# Altium schematic symbol library RLC.SchLib: 155 symbols (part 2 of 2)
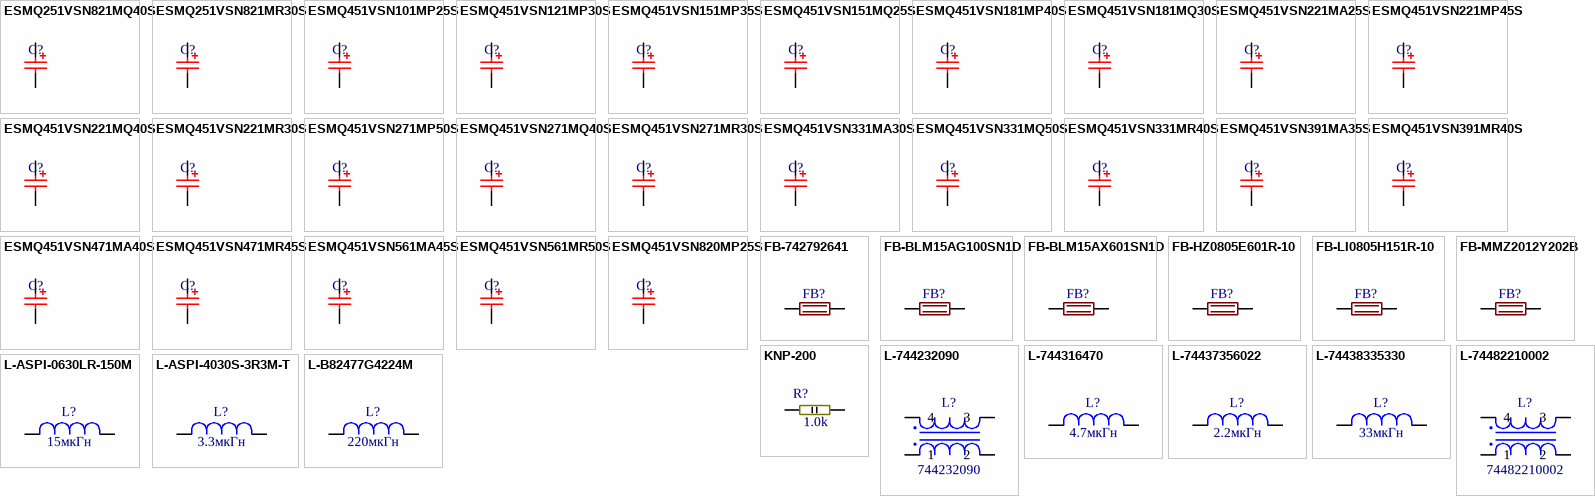
[diagram p4: symbols ESMQ251VSN821MQ40S to L-B82477G4224M]

## ESMQ451VSN391MR40S
designator C?, comment 390мк  (value not drawn)
Aluminium Electrolytic Capacitors - Radial Leaded ALUMINUM ELECTROLYTIC RADIAL 390UF 450 V; Part Number: ESMQ161VSN821MP35S; Voltage: 450V; Tolerance: +-20%; TypeComp: Capasitor; Value: 390мк; Quantity: 1; Package: 30mm x 40mm; Price: *; Manufacturer: *; ShoppingPlace: *; Documentation: https://ru.mouser.com/datasheet/2/420/United-Chemi-Con-552877.pdf
pins: 1, 2

## ESMQ451VSN471MA40S
designator C?, comment 470мк  (value not drawn)
Aluminium Electrolytic Capacitors - Radial Leaded ALUMINUM ELECTROLYTIC RADIAL 470UF 450 V; Part Number: ESMQ161VSN821MP35S; Voltage: 450V; Tolerance: +-20%; TypeComp: Capasitor; Value: 470мк; Quantity: 1; Package: 30mm x 40mm; Price: *; Manufacturer: *; ShoppingPlace: *; Documentation: https://ru.mouser.com/datasheet/2/420/United-Chemi-Con-552877.pdf
pins: 1, 2

## ESMQ451VSN471MR45S
designator C?, comment 470мк  (value not drawn)
Aluminium Electrolytic Capacitors - Radial Leaded ALUMINUM ELECTROLYTIC RADIAL 470UF 450 V; Part Number: ESMQ161VSN821MP35S; Voltage: 450V; Tolerance: +-20%; TypeComp: Capasitor; Value: 470мк; Quantity: 1; Package: 30mm x 45mm; Price: *; Manufacturer: *; ShoppingPlace: *; Documentation: https://ru.mouser.com/datasheet/2/420/United-Chemi-Con-552877.pdf
pins: 1, 2

## ESMQ451VSN561MA45S
designator C?, comment 560мк  (value not drawn)
Aluminium Electrolytic Capacitors - Radial Leaded ALUMINUM ELECTROLYTIC RADIAL 560UF 450 V; Part Number: ESMQ161VSN821MP35S; Voltage: 450V; Tolerance: +-20%; TypeComp: Capasitor; Value: 560мк; Quantity: 1; Package: 35mm x 45mm; Price: *; Manufacturer: *; ShoppingPlace: *; Documentation: https://ru.mouser.com/datasheet/2/420/United-Chemi-Con-552877.pdf
pins: 1, 2

## ESMQ451VSN561MR50S
designator C?, comment 560мк  (value not drawn)
Aluminium Electrolytic Capacitors - Radial Leaded ALUMINUM ELECTROLYTIC RADIAL 560UF 450 V; Part Number: ESMQ161VSN821MP35S; Voltage: 450V; Tolerance: +-20%; TypeComp: Capasitor; Value: 560мк; Quantity: 1; Package: 30mm x 50mm; Price: *; Manufacturer: *; ShoppingPlace: *; Documentation: https://ru.mouser.com/datasheet/2/420/United-Chemi-Con-552877.pdf
pins: 1, 2

## ESMQ451VSN820MP25S
designator C?, comment 82мк  (value not drawn)
Aluminium Electrolytic Capacitors - Radial Leaded ALUMINUM ELECTROLYTIC RADIAL 82UF 450 V; Part Number: ESMQ161VSN821MP35S; Voltage: 450V; Tolerance: +-20%; TypeComp: Capasitor; Value: 82мк; Quantity: 1; Package: 22mm×25mm; Price: *; Manufacturer: *; ShoppingPlace: *; Documentation: https://ru.mouser.com/datasheet/2/420/United-Chemi-Con-552877.pdf
pins: 1, 2

## FB-742792641
designator FB?
FERRITE BEAD 300 OHM 2А 0603 1LN; Manufacturer: Wurth Elc.; Value: 742792641; Tolerance: +-5%; Quabtity: 1; PVoltage: 2A,300Ohm@100MHz; ValueDesc: 742792641  0603 (1608)  2A,300Ohm@100MHz  742792641Гн Wurth Elc.; Package: 0603 (1608); Type: Ferrite Bead; Documentation: http://katalog.we-online.de/pbs/datasheet/742792641.pdf; Price: 1; ShoppingPlace: *; Part Number: 742792641; ValuePart: 742792641
footprint FB0603 (Body 1,6x0,8x0,8)
pins: 1, 2
1 alternate drawing of the same symbol

## FB-BLM15AG100SN1D
designator FB?
FERRITE BEAD 10 OHM 0402 1LN; Part Number: BLM15AG100SN1D; Manufacturer: Murata; PVoltage: 1A,10Ohm @ 100MHz; Value: 1u; Tolerance: +-5%; ValueDesc: BLM15AG100SN1D  0402 (1005)  1A,10Ohm @ 100MHz  1uГн Murata; Documentation: https://www.murata.com/en-us/products/productdata/8796740059166/ENFA0018.pdf; Price: 1; Quantity: 1; Package: 0402 (1005); ShoppingPlace: *; ValuePart: BLM15AG100SN1D
footprint FB0402
pins: 1, 2
1 alternate drawing of the same symbol

## FB-BLM15AX601SN1D
designator FB?, comment BLM15AX601SN1D  (value not drawn)
FERRITE BEAD 600 OHM 0402 1LN; Manufacturer: Murata; PVoltage: 500mA; Value: 600Ohm@100MHz; ValueDesc: BLM15AX601SN1D  0402 (1005)  500mA  600Ohm@100MHz  Murata; Part Number: BLM15AX601SN1D; Documentation: https://www.murata.com/en-us/products/productdata/8796740059166/ENFA0018.pdf; Price: 0,11; Quantity: 1; Package: 0402 (1005); ShoppingPlace: *; ValuePart: BLM15AX601SN1D
footprint FB0402
pins: 1, 2
1 alternate drawing of the same symbol

## FB-HZ0805E601R-10
designator FB?, comment HZ0805E601R-10  (value not drawn)
FERRITE BEAD 600 OHM 0402 1LN; Manufacturer: Laird; PVoltage: 500mA; Value: 600Ohm@100MHz; Tolerance: +-5%; ValueDesc: HZ0805E601R-10  0402 (1005)  500mA  600Ohm@100MHz  Laird; Part Number: HZ0805E601R-10; Documentation: http://cdn.lairdtech.com/home/brandworld/files/Catalog_EMI%20Filtering%20&%20RF%20Inductors.pdf; Price: 0,11; Quantity: 1; Package: 0402 (1005); ShoppingPlace: *; ValuePart: HZ0805E601R-10
footprint FB0402
pins: 1, 2
1 alternate drawing of the same symbol

## FB-LI0805H151R-10
designator FB?, comment LI0805H151R-10  (value not drawn)
FERRITE BEAD 150 OHM 0805 1LN; Manufacturer: Laird; PVoltage: 800mA; Value: 150 Ohms @ 100MHz; Tolerance: +-5%; ValueDesc: LI0805H151R-10  0805 (2012)  800mA  150 Ohms @ 100MHz  Laird; Part Number: LI0805H151R-10; Documentation: https://media.digikey.com/pdf/Data%20Sheets/Steward%20PDFs/Part%20Number%20Guide.pdf; Price: 0,11; Quantity: 1; Package: 0805 (2012); ShoppingPlace: *; ValuePart: LI0805H151R-10
footprint FB0805
pins: 1, 2
1 alternate drawing of the same symbol

## FB-MMZ2012Y202B
designator FB?
FERRITE BEAD 2kOHM 0805 1LN; Manufacturer: TDK; ValuePart: MMZ2012Y202B; PVoltage: 400mA; Value: 2kOhm@100MHz; Tolerance: +-5%; ValueDesc: MMZ2012Y202B  0805 (2012)  400mA  2kOhm@100MHz  TDK; Documentation: https://product.tdk.com/info/en/catalog/datasheets/beads_commercial_signal_mmz2012_en.pdf; Price: 0,11; Quantity: 1; Package: 0805 (2012); ShoppingPlace: *
footprint FB0805
pins: 1, 2
1 alternate drawing of the same symbol

## KNP-200
designator R?, comment 1.0k
KNP-200 2 Вт, 1 кОм, 5%; Part Number: KNP-2W-1KJ; Manufacturer: Тайвань; Voltage: 200В; Tolerance: +-5%; TypeComp: Resistor; Power: 1W; Quantity: *; Package: 2512; Price: 0,4; ShoppingPlace: https://www.chipdip.by/product0/267342143; Documentation: https://static.chipdip.ru/lib/244/DOC000244326.pdf; Value: 1.0k
footprint KNP-200-H (15mmx5mmx5mm hole 1mm)
footprint KNP-200-V (5mmx5mmx21mm hole 1mm)
pins: 1, 2

## L-744232090
designator L?  value 744232090
CMC 370MA 2LN 90 OHM SMD; Manufacturer: Wurth Electronics Inc.; Power: 50B; Tolerance: 90 Ohms @ 100MHz; Price: 1.23; Documentation: http://katalog.we-online.de/pbs/datasheet/744232090.pdf; Package: 4 PC Pad; Part Number: 744232090; Operating Temperature: -40°C~125°C; Quantity: *
footprint 4 PC Pad_WE-CNSW (Body 3.20mm x 1.60mm)
pins: 1, 2, 3, 4

## L-744316470
designator L?  value 4.7мкГн
FIXED IND 4.7UH 4.6A 24.5 MOHM; Manufacturer: Wurth Electronics Inc.; Part Number: 744316470; Tolerance: ±20%; Type: Inductor; Price: 2.55; Documentation: http://katalog.we-online.de/pbs/datasheet/744316470.pdf; Package: 5.5x5.3mm; Power: 4.6A
footprint l-744316470
pins: 1, 2
1 alternate drawing of the same symbol

## L-74437356022
designator L?  value 2.2мкГн
FIXED IND 2.2UH 8.5A 20.3 MOHM; Manufacturer: Wurth Electronics Inc.; Part Number: 74437356022; Tolerance: ±20%; ValueType: Inductor; Price: 2.08; Documentation: http://katalog.we-online.de/pbs/datasheet/74437356022.pdf; Package: 9.20x8.50mm; Power: 8.5A; Operating Temperature: -40°C~125°C
footprint l-74437356022
pins: 1, 2
1 alternate drawing of the same symbol

## L-74438335330
designator L?  value 33мкГн
FIXED IND 33UH 500MA 1.33 OHM; Manufacturer: Wurth Electronics; Part Number: 74438335330; Power: 0.5A; Tolerance: ±20%; ValueType: Inductor; Price: 1.57; Package: 1212 (3030); Operating Temperature: -40°C~125°C; Documantation: *
footprint L-1210 (3225 Metric) (0.126" L x 0.098" W (3.20mm x 2.50mm)_M)
pins: 1, 2
1 alternate drawing of the same symbol

## L-74482210002
designator L?  value 74482210002
CMC 175UH 10A 2LN TH; Manufacturer: Wurth Electronics Inc.; Power: 50B; Tolerance: 4mOhms @ 100kHz; Price: 5.94; Documentation: https://katalog.we-online.de/pbs/datasheet/74482210002.pdf; Package: 4 PC Pad-HOLE; Part Number: 74482210002; Operating Temperature: -40°C~125°C; Quantity: *
footprint 4 PC Pad-HOLE
pins: 1, 2, 3, 4

## L-ASPI-0630LR-150M
designator L?  value 15мкГн
FIXED IND 15UH 3A 120 MOHM; Manufacturer: Abracon LLC; Part Number: ASPI-0630LR-150M; Tolerance: ±20%; ValueType: Inductor; Price: 0.81; Documentation: http://www.abracon.com/Magnetics/power/ASPI-0630LR.pdf; Package: 7.20x6.65mm; PowerVoltage: 3A; Operating Temperature: -55°C~125°C
footprint L-ASPI-0630LR
pins: 1, 2
1 alternate drawing of the same symbol

## L-ASPI-4030S-3R3M-T
designator L?  value 3.3мкГн
FIXED IND 3.3UH 2.4A 40 MOHM SMD; ValueManufacturer: Abracon LLC; Part Number: ASPI-4030S-3R3M-T; Tolerance: ±20%; ValueType: Inductor; Price: 0.79000; Documentation: https://abracon.com/Magnetics/power/ASPI-4030S.pdf; Package: 3.0x4.0х4.0mm; Operating Temperature: -40°C ~ 125°C
footprint L-ASPI-4030S-3R3M-T
pins: 1, 2
1 alternate drawing of the same symbol

## L-B82477G4224M
designator L?  value 220мкГн
B82477G4224M, 220 мкГн, 1.16 А, 12.8х12.8, Катушка индуктивности SMD; Manufacturer: Epcos; Power: 1.16 А; Tolerance: ±20%; Type: Inductor; Price: 0,9; Documentation: https://static.chipdip.ru/lib/009/DOC001009882.pdf; Package: 10.4 мм x 10.4 мм; Part Number: B82477G4224M
footprint L-B82477G4 (12.8 mmx 12.8 mmx 8.0mm)
pins: 1, 2
1 alternate drawing of the same symbol

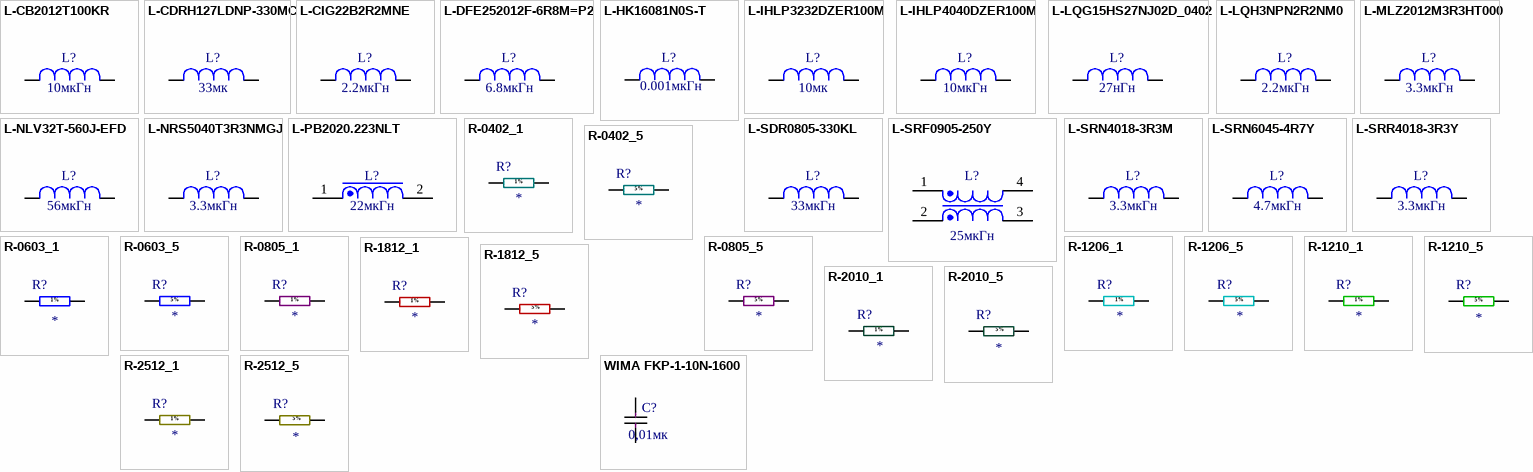
[diagram p3: symbols L-CB2012T100KR to WIMA FKP-1-10N-1600]

## L-CB2012T100KR
designator L?  value 10мкГн
FIXED IND 10µH 520mA 650mOhm 0805; Manufacturer: Taiyo Yuden; Part Number: CB2012T100KR; PVoltage: 0.52A; Tolerance: ±10%; ValueType: Inductor; Price: 0.23; Documentation: http://www.yuden.co.jp/productdata/catalog/en/wound02_e.pdf; Package: 0805 (2012); Operating Temperature: -40°C~105°C; ValueDesc: =ValuePart+'  '+PVoltage+'  '+Value+'мкГн '+Tolerance+'  '
footprint L0805
pins: 1, 2
1 alternate drawing of the same symbol

## L-CDRH127LDNP-330MC
designator L?  value 33мк
33UH 3A CD127 Размер: 12*12*7,5 мм; ValueManufacturer: SUMIDA; Part Number: CDRH127LDNP-330MC; TechSpec: Высота 5mm; Tolerance: ±20%; ValueType: Inductor; ValueDesc: CDRH127LDNP-330MC  3A  33мкмкГн ±20%; Price: 0,269; Documentation: https://products.sumida.com/products/pdf/CDRH127LD.pdf; Package: 8.64x8.18mm; PVoltage: 3A; Operating Temperature: -55°C~125°C; ValuePart: CDRH127LDNP-330MC; ShoppingPlace: https://ru.aliexpress.com/item/32317363511.html?spm=a2g0o.productlist.0.0.521b7d17e7VlJm&algo_pvid=9ba380fb-85ef-416a-8ee8-ca85e20aee77&algo_expid=9ba380fb-85ef-416a-8ee8-ca85e20aee77-0&btsid=f56018b0-e9bd-4c4e-9149-4bf090074090&ws_ab_test=searchweb0_0,searchweb201602_7,searchweb201603_52
footprint CDRH127LDNP-330MC (12mmx12mmx5mm)
pins: 1, 2
1 alternate drawing of the same symbol

## L-CIG22B2R2MNE
designator L?  value 2.2мкГн
FIXED IND 2.2UH 1.1A 183 MOHM; Manufacturer: Samsung Electro-Mechanics; Part Number: CIG22B2R2MNE; Tolerance: ±20%; Type: Inductor; Price: 0.25; Documentation: http://www.samsungsem.com/kr/front/downloadcms.do?path=/kr/support/product-search/inductor/__icsFiles/afieldfile/2014/11/13&fileName=S_CIG22B1R0MAE.pdf; Package: 1008 (2520); Power: 1.1A; Operating Temperature: -40°C~125°C
footprint L1008 (Chip Inductor, 2-Leads, Body 2,50x2,00mm, IPC Medium Density)
pins: 1, 2
1 alternate drawing of the same symbol

## L-DFE252012F-6R8M=P2
designator L?  value 6.8мкГн
FIXED IND 6.8UH 1.2A 330 MOHM; Manufacturer: Murata Electronics North America; Tolerance: ±20%; Par tNumber: DFE252012F-6R8M=P2; ValueType: Inductor; Price: 0.67; Package: 1008 (2520); Power: 1.2A; Operating Temperature: -40°C~125°C; Documentation: https://www.murata.com/~/media/webrenewal/products/inductor/chip/tokoproducts/wirewoundmetalalloychiptype/m_dfe252012f.ashx
footprint L1008 (Chip Inductor, 2-Leads, Body 2,50x2,00mm, IPC Medium Density)
pins: 1, 2
1 alternate drawing of the same symbol

## L-HK16081N0S-T
designator L?  value 0.001мкГн
FIXED INDUCTOR 1NH 300MA 50 MOHM SMD; ValueManufacturer: Taiyo Yuden; Part Number: HK16081N0S-T; Tolerance: ±300пГн; Price: 0.12; Documentation: http://ds.yuden.co.jp/TYCOMPAS/ut/detail.do?productNo=HK16081N0S-T&fileName=HK16081N0S-T_SS&mode=specSheetDownload; Package: 0603 (1608 Metric); Power: 300mA; ValueType: Fixed Inductor; Operating Temperature: -40°C ~ 85°C
footprint L0603_HK16081N0S-T (Body 1,6x0,8x0,8)
pins: 1, 2
1 alternate drawing of the same symbol

## L-IHLP3232DZER100M
designator L?  value 10мк
FIXED IND 10UH 5.2A 59.9 MOHM; ValueManufacturer: Vishay Dale; Part Number: IHLP3232DZER100M; TechSpec: Высота 4mm; Tolerance: ±20%; ValueType: Inductor; ValueDesc: IHLP3232DZER100M  5.2A  10мкмкГн ±20%; Price: 1.61; Documentation: http://www.vishay.com/docs/34192/lp40dz11.pdf; Package: 8.64x8.18mm; PVoltage: 5.2A; Operating Temperature: -55°C~125°C; ValuePart: IHLP3232DZER100M
footprint L-IHLP3232DZER100M
pins: 1, 2
1 alternate drawing of the same symbol

## L-IHLP4040DZER100M
designator L?  value 10мкГн
FIXED IND 10UH 7.5A 30.5 MOHM; Manufacturer: Vishay Dale; Part Number: IHLP4040DZER100M; PVoltage: 7.1A; Tolerance: ±20%; ValueType: Inductor; Price: 2.48; Documentation: http://www.vishay.com/docs/34192/lp40dz11.pdf; Package: 11x10.30mm; Operating Temperature: -55°C~125°C; ValueDesc: =ValuePart+'  '+PVoltage+'  '+Value+'мкГн '+Tolerance+'  '
footprint L-IHLP4040DZER100M11 (Chip Inductor, 2-Leads, Body 10.92mm x 10.30mm,  Vishay Dale)
pins: 1, 2
1 alternate drawing of the same symbol

## L-LQG15HS27NJ02D_0402
designator L?  value 27нГн
FIXED IND 27NH 350MA 460 MOHM; Manufacturer: Murata Electronics; Part Number: LQG15HS27NJ02D; TechSpec: 460 mOhm Max; Tolerance: ±5%; ValueType: Inductor; Price: 0.1; Documentation: http://psearch.en.murata.com/inductor/product/LQG15HS27NJ02_.pdf; Package: 1.0x0.5mm; Power: 350mA; Operating Temperature: -40°C~125°C
footprint L0402
pins: 1, 2
1 alternate drawing of the same symbol

## L-LQH3NPN2R2NM0
designator L?  value 2.2мкГн
FIXED IND 2.2UH 1.6A 73 MOHM; Manufacturer: Murata; PartNumber: LQH3NPN2R2NM0; Power: 1.25A; Tolerance: ±30%; ValueType: Inductor; ValueDesc: 1212 LQH3NPN2R2NM0 2.2мкГн Murata; Price: 0.44; Documentation: http://psearch.en.murata.com/inductor/product/LQH3NPN2R2NM0%23.pdf; Package: 1212; Operating Temperature: -40°C~85°C
footprint 1212_LQH3NPN2R2NM0L
pins: 1, 2
1 alternate drawing of the same symbol

## L-MLZ2012M3R3HT000
designator L?  value 3.3мкГн
FIXED IND 3.3UH 500MA 200 MOHM; ValueManufacturer: Taiyo Yuden; ValueManufacturerPartNumber: MLZ2012M3R3HT000; Power: 0.5A; Tolerance: ±20%; ValueType: Inductor; Price: 0.15; Documentation: https://product.tdk.com/info/en/catalog/datasheets/inductor_commercial_decoupling_mlz2012_en.pdf; Package: 0805 (2012); Operating Temperature: -55°C ~ 125°C
footprint L0805
pins: 1, 2
1 alternate drawing of the same symbol

## L-NLV32T-560J-EFD
designator L?  value 56мкГн
FIXED IND 56UH 55MA 8 OHM SMD; Manufacturer: TDK Corporation; Part Number: NLV32T-560J-EFD; Tolerance: ±5%; ValueType: Inductor; Price: 0.33; Documentation: https://product.tdk.com/info/en/catalog/datasheets/inductor_automotive_standard_nlv32-efd_en.pdf; Package: 3.2x2.5х2.4mm; Power: 55mA; Operating Temperature: -40°C~105°C
footprint L-1210 (3225 Metric) (0.126" L x 0.098" W (3.20mm x 2.50mm)_M)
pins: 1, 2
1 alternate drawing of the same symbol

## L-NRS5040T3R3NMGJ
designator L?  value 3.3мкГн
FIXED IND 3.3UH 3.3A 27 MOHM SMD; Manufacturer: Taiyo Yuden; Part Number: NRS5040T3R3NMGJ; Tolerance: ±30%; ValueType: Inductor; Price: 0.38; Documentation: http://ds.yuden.co.jp/TYCOMPAS/ut/detail.do?productNo=NRS5040T3R3NMGJ&fileName=NRS5040T3R3NMGJ_SS&mode=specSheetDownload; Package: 4.9x4.9х4.1mm; Power: 3.3A; ValueDescription: =ValueManufacturerPartNumber+' Индуктивность '+Value+'  '+Package+'  '+PowerVoltage+'  '+Tolerance+'  '+TechSpec; Operating Temperature: -25°C~125°C
footprint L-NRS5040T3R3NMGJ (Precision Wire Wound Inductor, 2-Leads, Body 4,90x4,90mm, IPC Medium Density)
pins: 1, 2
1 alternate drawing of the same symbol

## L-PB2020.223NLT
designator L?  value 22мкГн
FIXED IND 22UH 8.1A 20 MOHM SMD; Manufacturer: Pulse Electronics; Part Number: PB2020.223NLT; Tolerance: ±20%; ValueType: INDUCTOR; Price: 3.49; Documentation: http://productfinder.pulseeng.com/products/datasheets/SPM2007_14.pdf; Package: 23.9x20.8mm; PowerVoltage: 8.1A; Operating Temperature: -40°C~130°C
footprint PB2020 (Inductor, 2-Leads, Body 23,87x20,83mm)
pins: 1, 2
1 alternate drawing of the same symbol

## L-SDR0805-330KL
designator L?  value 33мкГн
SDR0805-330KL, 33 мкГн, Индуктивность SMD,6A; Manufacturer: Bourns; Tolerance: ±20%; Par tNumber: L-SDR0805-330KL; ValueType: Inductor; Price: 0.9; Package: 0805; Power: 6A; Operating Temperature: -40°C~125°C; Documentation: https://static.chipdip.ru/lib/056/DOC000056641.pdf; ShoppingPlace: https://www.chipdip.by/product/sdr0805-330kl; ComponentLink1Description: Bourns; ComponentLink1URL: https://static.chipdip.ru/lib/056/DOC000056641.pdf
footprint SDR0805
pins: 1, 2
1 alternate drawing of the same symbol

## L-SRF0905-250Y
designator L?  value 25мкГн
CHOKE 25uH 80V 1A 2LN 600OHM SMD; Manufacturer: Bourns; Part Number: SRF0905-250Y; Power: 80В 1.0A; Tolerance: ±30%; Price: 1.13; Documentation: http://www.bourns.com/docs/Product-Datasheets/SRF0905.pdf; Package: 9.20x6.00mm; ValueType: Choke; Operating Temperature: -40°C~105°C
footprint SRF0905 (DFN, 4-Leads, Body 6,00x9,20mm)
pins: 1, 2, 3, 4

## L-SRN4018-3R3M
designator L?  value 3.3мкГн
FIXED IND 3.3UH 2.2A 66 MOHM SMD; Manufacturer: Bourns Inc.; Part Number: SRN4018-3R3M; Tolerance: ±20%; ValueType: Inductor; Price: 0.44; Documentation: http://www.bourns.com/docs/Product-Datasheets/SRN6045.pdf; Package: 4.0x4.0х1.8mm; TechSpec: 2.2A; Operating Temperature: -40°C~125°C
footprint L-SRN4018-3R3M
pins: 1, 2
1 alternate drawing of the same symbol

## L-SRN6045-4R7Y
designator L?  value 4.7мкГн
FIXED IND 4.7UH 3A 37.6 MOHM SMD; Manufacturer: Bourns Inc.; Part Number: SRN6045-4R7Y; TechSpec: 3А; Tolerance: ±30%; ValueType: Inductor; Price: 0.5; Documentation: http://www.bourns.com/docs/Product-Datasheets/SRN6045.pdf; Package: 4.5x6.0х6.0mm; Operating Temperature: -40°C ~ 125°C
footprint L-INDP6060X45N (Precision Wire Wound Inductor, 2-Leads, Body 6,00x6,00mm, IPC Medium Density)
pins: 1, 2
1 alternate drawing of the same symbol

## L-SRR4018-3R3Y
designator L?  value 3.3мкГн
FIXED IND 3.3UH 1.95A 65 MOHM; Manufacturer: Bourns Inc.; Part Number: SRR4018-3R3Y; Tolerance: ±30%; ValueType: Inductor; Price: 0.79000; Documentation: http://www.bourns.com/docs/Product-Datasheets/SRR4018.pdf; Package: 2.0x4.8х4.8mm; Operating Temperature: -40°C ~ 125°C
footprint L-INDP4848X20N (Precision Wire Wound Inductor, 2-Leads, Body 4,80x4,80mm, IPC Medium Density)
pins: 1, 2
1 alternate drawing of the same symbol

## R-0402_1
designator R?
±1% 0.2W, 1/5W Chip Resistor 0402 (1005 Metric); Part Number: ERJ-2LWFR010X; Manufacturer: Panasonic Electronic Components; PVoltage: 0.063W; Tolerance: +-1%; Quantity: 1; Package: 0402; Price: 0.39; ShoppingPlace: https://www.digikey.com/product-detail/en/panasonic-electronic-components/ERJ-2LWFR010X/P19181CT-ND/6004536; Documentation: https://industrial.panasonic.com/cdbs/www-data/pdf/RDN0000/AOA0000C313.pdf; Type: Resistor; Power: 0.063W; ValueDesc: =Package+'  '+PVoltage+'  '+Value+'Ом '+Tolerance+'  '; Value: *
footprint R0402
pins: 1, 2
text: 1%

## R-0402_5
designator R?
±5% 0.2W, 1/5W Chip Resistor 0402 (1005 Metric); Part Number: ERJ-PA2J914X; Manufacturer: Panasonic Electronic Components; PVoltage: 0.063W; Tolerance: +-5%; Quantity: 1; Package: 0402; Price: 0,2; ShoppingPlace: https://www.digikey.com/product-detail/en/panasonic-electronic-components/ERJ-PA2J914X/ERJ-PA2J914X-ND/9815507; Documentation: https://industrial.panasonic.com/cdbs/www-data/pdf/RDO0000/AOA0000C331.pdf; Type: Resistor; Power: 0.063W; ValueDesc: =Package+'  '+PVoltage+'  '+Value+'Ом '+Tolerance+'  '; Value: *
footprint R0402
pins: 1, 2
text: 5%

## R-0603_1
designator R?
±1% 0.1W, 1/10W Chip Resistor 0603 (1608 Metric); Part Number: ERJ-3GEYJXXXV; Manufacturer: Panasonic Electronic Components; Tolerance: +-1%; PVoltage: 0.1W; Quantity: 1; Package: 0603; Price: 0,1; ShoppingPlace: https://www.digikey.com/product-detail/en/panasonic-electronic-components/ERJ-3GEYJ472V/P4.7KGCT-ND/135199; Documentation: https://industrial.panasonic.com/ww/products/resistors/chip-resistors/general-purpose-chip-resistors/thick-film-chip-resistors/ERJ3GEYJ472V; Type: Resistor; Power: 0.1W; ValueDesc: =Package+'  '+PVoltage+'  '+Value+'Ом '+Tolerance+'  '; ComponentLink1Description: 0603; ComponentLink1URL: https://industrial.panasonic.com/ww/products/resistors/chip-resistors/general-purpose-chip-resistors/thick-film-chip-resistors/ERJ3GEYJ472V; Value: *
footprint R603
pins: 1, 2
text: 1%

## R-0603_5
designator R?
±5% 0.1W, 1/10W Chip Resistor 0603 (1608 Metric); Part Number: ERJ-3GEYJXXXV; Manufacturer: Panasonic Electronic Components; Tolerance: +-5%; PVoltage: 0.1W; Quantity: 1; Package: 0603; Price: 0,1; ShoppingPlace: https://www.digikey.com/product-detail/en/panasonic-electronic-components/ERJ-3GEYJ472V/P4.7KGCT-ND/135199; Documentation: https://industrial.panasonic.com/ww/products/resistors/chip-resistors/general-purpose-chip-resistors/thick-film-chip-resistors/ERJ3GEYJ472V; Type: Resistor; Power: 0.1W; ComponentLink1Description: 0603; ComponentLink1URL: https://industrial.panasonic.com/ww/products/resistors/chip-resistors/general-purpose-chip-resistors/thick-film-chip-resistors/ERJ3GEYJ472V; ValueDesc: =Package+'  '+PVoltage+'  '+Value+'Ом '+Tolerance+'  '; Value: *
footprint R603
pins: 1, 2
text: 5%

## R-0805_1
designator R?
±1% 0.5W, 1/2W Chip Resistor 0805 (2012 Metric); Part Number: ERJ-6LWFRxxxV; Manufacturer: Panasonic Electronic Components; PVoltage: 0.125W; Tolerance: +-1%; Quantity: 1; Package: 0805; Price: 0,4; ShoppingPlace: https://www.digikey.com/product-detail/en/panasonic-electronic-components/ERJ-6LWFR005V/P19183DKR-ND/6004402; Documentation: https://industrial.panasonic.com/cdbs/www-data/pdf/RDN0000/AOA0000C313.pdf; Type: Resistor; Power: 0.125W; ComponentLink1Description: 0805; ComponentLink1URL: https://industrial.panasonic.com/cdbs/www-data/pdf/RDN0000/AOA0000C313.pdf; ValueDesc: =Package+'  '+PVoltage+'  '+Value+'Ом '+Tolerance+'  '; Value: *
footprint R0805
pins: 1, 2
text: 1%

## R-0805_5
designator R?
±5% 0.5W, 1/2W Chip Resistor 0805 (2012 Metric); Part Number: ERJ-P6WJxxxV; Manufacturer: Panasonic Electronic Components; PVoltage: 0.125W; Tolerance: +-5%; Quantity: 1; Package: 0805; Price: 0,1; ShoppingPlace: https://www.digikey.com/product-detail/en/panasonic-electronic-components/ERJ-P6WJ912V/ERJ-P6WJ912V-ND/4964694; Documentation: https://industrial.panasonic.com/cdbs/www-data/pdf/RDN0000/AOA0000C313.pdf; Type: Resistor; Power: 0.125W; ValueDesc: =Package+'  '+PVoltage+'  '+Value+'Ом '+Tolerance+'  '; ComponentLink1Description: 0805; ComponentLink1URL: https://industrial.panasonic.com/cdbs/www-data/pdf/RDN0000/AOA0000C313.pdf; Value: *
footprint R0805
pins: 1, 2
text: 5%

## R-1206_1
designator R?
0.25W, 1/4W Chip Resistor 1206 (3216 Metric); Part Number: ERJ-8RQF1xxxV; Manufacturer: Panasonic Electronic Components; Tolerance: +-1%; PVoltage: 0.25W; Quantity: 1; Package: 1206; Price: 0,1; ShoppingPlace: https://www.digikey.com/product-detail/en/panasonic-electronic-components/ERJ-8RQF1R0V/P1.0RTR-ND/250218; Documentation: https://industrial.panasonic.com/cdbs/www-data/pdf/RDN0000/AOA0000C313.pdf; Type: Resistor; Power: 0.25W; ComponentLink1Description: 1206; ComponentLink1URL: https://industrial.panasonic.com/cdbs/www-data/pdf/RDN0000/AOA0000C313.pdf; ValueDesc: =Package+'  '+PVoltage+'  '+Value+'Ом '+Tolerance+'  '; Value: *
footprint R1206
pins: 1, 2
text: 1%

## R-1206_5
designator R?
0.25W, 1/4W Chip Resistor 1206 (3216 Metric); Part Number: ERJ-8RQF1xxxV; Manufacturer: Panasonic Electronic Components; Tolerance: +-5%; PVoltage: 0.25W; Quantity: 1; Package: 1206; Price: 0,1; ShoppingPlace: https://www.digikey.com/product-detail/en/panasonic-electronic-components/ERJ-8RQF1R0V/P1.0RTR-ND/250218; Documentation: https://industrial.panasonic.com/cdbs/www-data/pdf/RDN0000/AOA0000C313.pdf; TypeComp: Resistor; Power: 0.25W; ComponentLink1Description: 1206; ComponentLink1URL: https://industrial.panasonic.com/cdbs/www-data/pdf/RDN0000/AOA0000C313.pdf; ValueDesc: =Package+'  '+PVoltage+'  '+Value+'Ом '+Tolerance+'  '; Value: *
footprint R1206
pins: 1, 2
text: 5%

## R-1210_1
designator R?
1/3W Chip Resistor 1210 (3125 Metric); Part Number: RMCS1210ZT0XXX; Manufacturer: Stackpole Electronics Inc; PVoltage: 0.5W; Tolerance: +-1%; Quantity: 1; Package: 1210; Price: 0,1; ShoppingPlace: https://www.digikey.com/product-detail/en/stackpole-electronics-inc/RMCS1210ZT0R00/RMCS1210ZT0R00-ND/6267631; Documentation: https://www.seielect.com/Catalog/SEI-rmcs.pdf; Type: Resistor; Power: 0.5W; ComponentLink1Description: 1210; ComponentLink1URL: https://www.seielect.com/Catalog/SEI-rmcs.pdf; ValueDesc: =Package+'  '+PVoltage+'  '+Value+'Ом '+Tolerance+'  '; Value: *
footprint R1210
pins: 1, 2
text: 1%

## R-1210_5
designator R?
1/3W Chip Resistor 1210 (3125 Metric); Part Number: RMCS1210ZT0xxx; Manufacturer: Stackpole Electronics Inc; PVoltage: 0.5W; Tolerance: +-5%; Quantity: 1; Package: 1210; Price: 0,1; ShoppingPlace: https://www.digikey.com/product-detail/en/stackpole-electronics-inc/RMCS1210ZT0R00/RMCS1210ZT0R00-ND/6267631; Documentation: https://www.seielect.com/Catalog/SEI-rmcs.pdf; TypeComp: Resistor; Power: 0.5W; ComponentLink1Description: 1210; ComponentLink1URL: https://www.seielect.com/Catalog/SEI-rmcs.pdf; ValueDesc: =Package+'  '+PVoltage+'  '+Value+'Ом '+Tolerance+'  '; Value: *
footprint R1210
pins: 1, 2
text: 5%

## R-1812_1
designator R?
±1% 0.75W, 3/4W Chip Resistor 1812 (4532 Metric); Part Number: ERJ-12YJxxxxU; Manufacturer: Panasonic Electronic Components; Tolerance: +-1%; PVoltage: 0.75W; Quantity: 1; Package: 1812; Price: 0,3; ShoppingPlace: https://www.digikey.com/product-detail/en/panasonic-electronic-components/ERJ-12YJ100U/P15972CT-ND/3982312; Documentation: https://industrial.panasonic.com/cdbs/www-data/pdf/RDA0000/AOA0000C301.pdf; TypeComp: Resistor; Power: 0.75W; ComponentLink1Description: 1812; ComponentLink1URL: https://industrial.panasonic.com/cdbs/www-data/pdf/RDA0000/AOA0000C301.pdf; ValueDesc: =Package+'  '+PVoltage+'  '+Value+'Ом '+Tolerance+'  '; Value: *
footprint R1812
pins: 1, 2
text: 1%

## R-1812_5
designator R?
±5% 0.75W, 3/4W Chip Resistor 1812 (4532 Metric); Part Number: ERJ-12YJxxxU; Manufacturer: Panasonic Electronic Components; Tolerance: +-5%; PVoltage: 0.75W; Quantity: 1; Package: 1812; Price: 0,3; ShoppingPlace: https://www.digikey.com/product-detail/en/panasonic-electronic-components/ERJ-12YJ100U/P15972TR-ND/3982606; Documentation: https://industrial.panasonic.com/cdbs/www-data/pdf/RDN0000/AOA0000C313.pdf; TypeComp: Resistor; Power: 0.75W; ValueDesc: =Package+'  '+PVoltage+'  '+Value+'Ом '+Tolerance+'  '; ComponentLink1Description: 1812; ComponentLink1URL: https://industrial.panasonic.com/cdbs/www-data/pdf/RDN0000/AOA0000C313.pdf; Value: *
footprint R1812
pins: 1, 2
text: 5%

## R-2010_1
designator R?
±1% 0.75W, 3/4W Chip Resistor 2010 (5025 Metric); Part Number: ERJ-12ZYJxxxU; Manufacturer: Panasonic Electronic Components; Tolerance: +-1%; PVoltage: 0.75W; Quantity: 1; Package: 2010; Price: 0,3; ShoppingPlace: https://www.digikey.com/product-detail/en/panasonic-electronic-components/ERJ-12ZYJ510U/P51WCT-ND/249680; Documentation: https://industrial.panasonic.com/cdbs/www-data/pdf/RDN0000/AOA0000C313.pdf; TypeComp: Resistor; Power: 0.75W; ComponentLink1Description: 2010; ComponentLink1URL: https://industrial.panasonic.com/cdbs/www-data/pdf/RDN0000/AOA0000C313.pdf; ValueDesc: =Package+'  '+PVoltage+'  '+Value+'Ом '+Tolerance+'  '; Value: *
footprint R2010
pins: 1, 2
text: 1%

## R-2010_5
designator R?
±5% 0.75W, 3/4W Chip Resistor 2010 (5025 Metric); Part Number: ERJ-12ZYJxxxU; Manufacturer: Panasonic Electronic Components; Tolerance: +-5%; PVoltage: 0.75W; Quantity: 1; Package: 2010; Price: 0,3; ShoppingPlace: https://www.digikey.com/product-detail/en/panasonic-electronic-components/ERJ-12ZYJ510U/P51WCT-ND/249680; Documentation: https://industrial.panasonic.com/cdbs/www-data/pdf/RDA0000/AOA0000C301.pdf; TypeComp: Resistor; Power: 0.75W; ValueDesc: =Package+'  '+PVoltage+'  '+Value+'Ом '+Tolerance+'  '; ComponentLink1Description: 2010; ComponentLink1URL: https://industrial.panasonic.com/cdbs/www-data/pdf/RDA0000/AOA0000C301.pdf; Value: *
footprint R2010
pins: 1, 2
text: 5%

## R-2512_1
designator R?
±1% 1W Chip Resistor 2512 (6432 Metric); Part Number: ERJ-1TYJxxxU; Manufacturer: Panasonic Electronic Components; PVoltage: 1Вт; Tolerance: +-1%; ValueDesc: 2512  1Вт  *Ом +-1%; Quantity: 1; Package: 2512; Price: 0,1; ShoppingPlace: https://www.digikey.com/product-detail/en/panasonic-electronic-components/ERJ-1TYJ203U/PT20KXTR-ND/365163; Documentation: https://industrial.panasonic.com/cdbs/www-data/pdf/RDM0000/DMM0000COL9.pdf; TypeComp: Resistor; Power: 1W; ComponentLink1Description: 2512; ComponentLink1URL: https://industrial.panasonic.com/cdbs/www-data/pdf/RDM0000/DMM0000COL9.pdf; Value: *
footprint R2512
pins: 1, 2
text: 1%

## R-2512_5
designator R?
±5% 0.75W, 3/4W Chip Resistor 2010 (5025 Metric); Part Number: ERJ-12ZYJxxxU; Manufacturer: Panasonic Electronic Components; PVoltage: 1W; Tolerance: +-5%; Quantity: 1; Package: 2512; Price: 0,3; ShoppingPlace: https://www.digikey.com/product-detail/en/panasonic-electronic-components/ERJ-12ZYJ510U/P51WCT-ND/249680; Documentation: https://industrial.panasonic.com/cdbs/www-data/pdf/RDA0000/AOA0000C301.pdf; Type: Resistor; Power: 1W; ComponentLink1Description: 2512; ComponentLink1URL: https://industrial.panasonic.com/cdbs/www-data/pdf/RDA0000/AOA0000C301.pdf; ValueDesc: =Package+'  '+PVoltage+'  '+Value+'Ом '+Tolerance+'  '; Value: *
footprint R2512
pins: 1, 2
text: 5%

## WIMA FKP-1-10N-1600
designator C?, comment 0,01мк
0,01uF 1600V; Part Number: FKP-1-10N-1600; Manufacturer: WIMA; Tolerance: +-10%; TypeComp: Capasitor; Value: 0,01мк; Voltage: 1600V; Quantity: *; Package: 0805; Price: 2; ShoppingPlace: https://belchip.by/product/?selected_product=07039; Documentation: https://belchip.by/sitedocs/wima_fkp1.pdf
footprint FKP-1-10N
pins: 1, 2